# Altium footprint library PCB1.PcbLib: 74 footprints (part 2 of 5)
Each footprint in its own frame and in the unit in brackets; x right, y up, seen from the top. Pads: shape width x height; smd on the part's side, far side on the other; paste and mask are expansions set on the pad; w line width, h text height; cw(c..) or ccw(c..) is an arc to the next point about the centre after c.
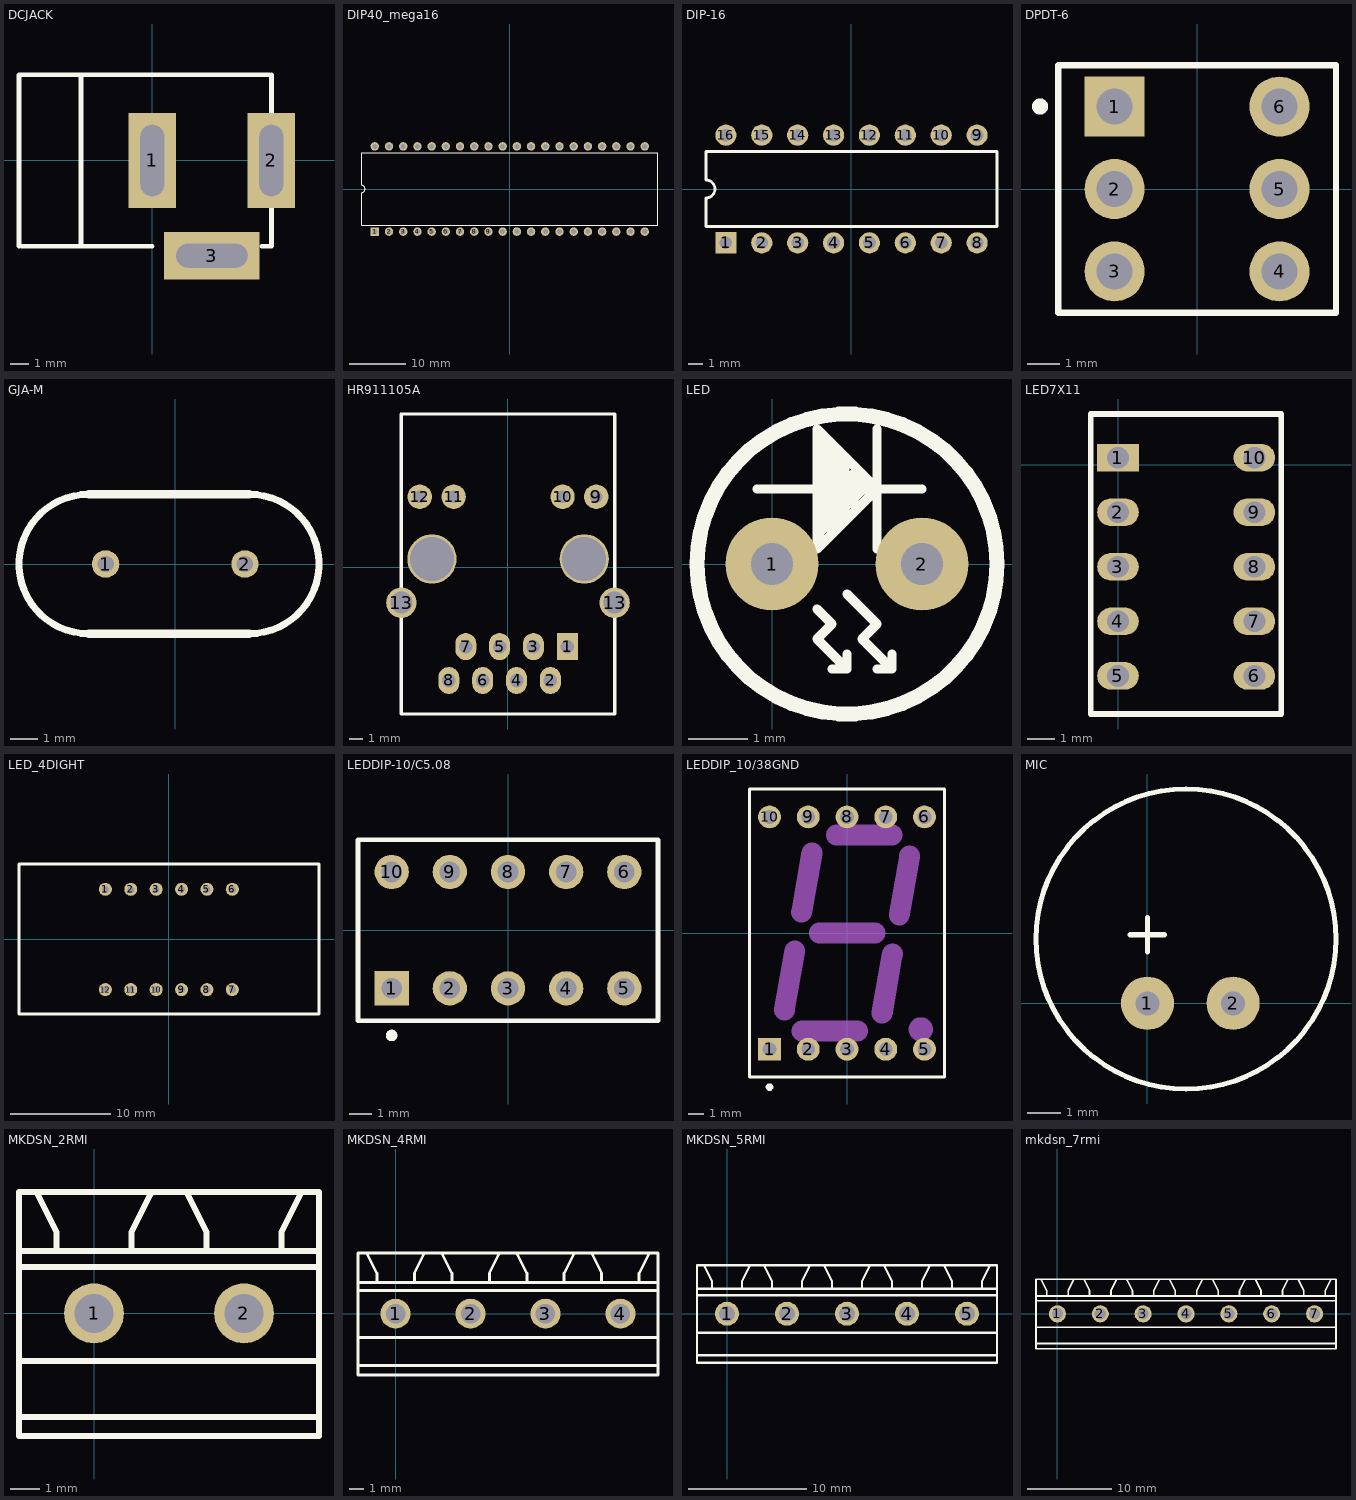
[diagram p1: the footprints below, top view; thin cyan lines are the x and y axes]

## DCJACK [mm]
pads (3):
  rect 2.54x5.08 hole 1.27 slot 3.81 at 90 deg: 1(0,0) 2(6.35,0)
  rect 5.08x2.54 hole 1.27 slot 3.81 at 0 deg: 3(3.175,-5.08)
Top Overlay:
  lines w0.254: -7.112,-4.572 -7.112,4.572 6.223,4.572 ; -6.985,-4.572 0,-4.572 ; -3.81,-4.572 -3.81,4.572 ; 5.842,-4.572 6.35,-4.572 6.35,-2.54 ; 6.35,2.54 6.35,4.572

## DIP40_mega16 [mm]
pads (40):
  rect 1.5x1.5 hole 0.9: 1(-24.13,-7.62)
  round 1.5 hole 0.9: 2(-21.59,-7.62) 3(-19.05,-7.62) 4(-16.51,-7.62) 5(-13.97,-7.62) 6(-11.43,-7.62) 7(-8.89,-7.62) 8(-6.35,-7.62) 9(-3.81,-7.62) 10(-1.27,-7.62) 11(1.27,-7.62) 12(3.81,-7.62) 13(6.35,-7.62) 14(8.89,-7.62) 15(11.43,-7.62) 16(13.97,-7.62) 17(16.51,-7.62) 18(19.05,-7.62) 19(21.59,-7.62) 20(24.13,-7.62) 21(24.13,7.62) 22(21.59,7.62) 23(19.05,7.62) 24(16.51,7.62) 25(13.97,7.62) 26(11.43,7.62) 27(8.89,7.62) 28(6.35,7.62) 29(3.81,7.62) 30(1.27,7.62) 31(-1.27,7.62) 32(-3.81,7.62) 33(-6.35,7.62) 34(-8.89,7.62) 35(-11.43,7.62) 36(-13.97,7.62) 37(-16.51,7.62) 38(-19.05,7.62) 39(-21.59,7.62) 40(-24.13,7.62)
Top Overlay:
  lines w0.2: -26.5,-6.45 26.5,-6.45 26.5,6.45 -26.5,6.45 -26.5,0.635 cw(c-26.5,0) -26.5,-0.635 -26.5,-6.45

## DIP-16 [mm]
pads (16):
  rect 1.5x1.5 hole 0.9: 1(-8.89,-3.81)
  round 1.5 hole 0.9: 2(-6.35,-3.81) 3(-3.81,-3.81) 4(-1.27,-3.81) 5(1.27,-3.81) 6(3.81,-3.81) 7(6.35,-3.81) 8(8.89,-3.81) 9(8.89,3.81) 10(6.35,3.81) 11(3.81,3.81) 12(1.27,3.81) 13(-1.27,3.81) 14(-3.81,3.81) 15(-6.35,3.81) 16(-8.89,3.81)
Top Overlay:
  lines w0.2: -10.3,-2.65 -10.3,-0.635 ccw(c-10.3,0) -10.3,0.635 -10.3,2.65 10.3,2.65 10.3,-2.65 -10.3,-2.65

## DPDT-6 [mm] "Double-Pole, Double-Throw Switch; 6 Leads"
height 1.75
pads (6):
  rect 1.85x1.85 hole 1.1: 1(-2.54,2.54)
  round 1.85 hole 1.1: 2(-2.54,0) 3(-2.54,-2.54) 4(2.54,-2.54) 5(2.54,0) 6(2.54,2.54)
Top Overlay:
  circle w0.25: c-4.836,2.541 r0.125
  lines w0.2: -4.28,-3.81 4.28,-3.81 4.28,3.81 -4.28,3.81 -4.28,-3.81

## GJA-M [mm]
pads (2):
  round 1 hole 0.6: 1(-2.54,0) 2(2.54,0)
Top Overlay:
  lines w0.254: -3.156,-2.54 cw(c-3.156,0) -3.156,2.54 ; 2.698,-2.54 ccw(c2.698,0) 2.698,2.54
  lines w0.305: -3.156,-2.54 2.698,-2.54 ; -3.156,2.54 2.698,2.54

## HR911105A [mil]
height 68.9
pads (16):
  rect 62x80 hole 40: 1(176,-235)
  oval 62x80 hole 40: 2(126,-335) 3(76,-235) 4(26,-335) 5(-24,-235) 6(-74,-335) 7(-124,-235) 8(-174,-335)
  round 72 hole 36: 9(261.63,207.91) 10(162,207.91) 11(-159.87,207.91) 12(-260,207.91)
  round 90 hole 65: 13(-314.16,-105.08) 13(315.76,-105.08)
  round 145.67 hole 130 unplated: ""(-224,24) ""(226,24)
Top Overlay:
  lines w10: -314.16,-434 315.76,-434 315.76,-105.08 315.76,452.17 316,452.4 -314,452.4 -314.16,452.24 -314.16,-105.08 -314.16,-434

## LED [mil]
pads (2):
  round 62 hole 28: 1(0,0) 2(100,0)
Top Overlay:
  circle w10: c50,0 r100
  rectangle: 30,26.8 46.8,72
  lines w5: 49.06,70.94 49.06,29.06 55,35 55,61.77 ; 53.49,53.54 52,52.06 59,52.06 55,56.06 55,49.89 55,43 ; 55,43 35.48,23.48 35.48,78 41.24,72.24 41.24,78.24 33.8,70.8 33.8,79.8 32,78 32,20 61,49 61,55.77 55,61.77 ; 55,43 55,61.77 ; 55,43 49.06,48.94 49.06,55.83 55,61.77
  lines w6: -10,50 100,50 ; 30,-30 40,-40 30,-50 50,-70 ; 30,30 30,33.07 ; 40,-70 50,-70 ; 50,-60 50,-70 ; 50,-20 70,-40 60,-50 80,-70 ; 70,-70 80,-70 ; 70,10 70,90 ; 80,-60 80,-70 ; 30,10 70,50 30,90 30,10

## LED7X11 [mil]
pads (10):
  rect 60x40 hole 31.5: 1(-0.39,10)
  oval 60x40 hole 31.5: 2(-0.39,-68.74) 3(-0.39,-147.48) 4(-0.39,-226.22) 5(-0.39,-304.96) 6(196.46,-304.96) 7(196.46,-226.22) 8(196.46,-147.48) 9(196.46,-68.74) 10(196.46,10)
Top Overlay:
  lines w8: -40,-360 235.59,-360 235.59,73.07 -40,73.07 -40,-360

## LED_4DIGHT [mm]
pads (12):
  round 1.3 hole 0.7: 1(-6.35,5.016) 2(-3.81,5.016) 3(-1.27,5.016) 4(1.27,5.016) 5(3.81,5.016) 6(6.35,5.016) 7(6.35,-5.016) 8(3.81,-5.016) 9(1.27,-5.016) 10(-1.27,-5.016) 11(-3.81,-5.016) 12(-6.35,-5.016)
Top Overlay:
  lines w0.254: -14.986,-7.455 15.014,-7.455 15.014,7.545 -14.986,7.545 -14.986,-7.455

## LEDDIP-10/C5.08 [mm]
pads (10):
  rect 1.5x1.5 hole 0.9: 1(-5.08,-2.54)
  round 1.5 hole 0.9: 2(-2.54,-2.54) 3(0,-2.54) 4(2.54,-2.54) 5(5.08,-2.54) 6(5.08,2.54) 7(2.54,2.54) 8(0,2.54) 9(-2.54,2.54) 10(-5.08,2.54)
Top Overlay:
  circle w0.25: c-5.08,-4.6 r0.125
  lines w0.2: -6.55,-3.95 -6.55,3.95 6.55,3.95 6.55,-3.95 -6.55,-3.95

## LEDDIP_10/38GND [mm] "LED, 7-Segment Display, 14.2 mm, RHD; 10 Leads; Row Space 15.24 mm; Pitch 2.54 mm"
height 8.25
pads (10):
  rect 1.5x1.5 hole 0.9: 1(-5.08,-7.62)
  round 1.5 hole 0.9: 2(-2.54,-7.62) 3(0,-7.62) 4(2.54,-7.62) 5(5.08,-7.62) 6(5.08,7.62) 7(2.54,7.62) 8(0,7.62) 9(-2.54,7.62) 10(-5.08,7.62)
Top Overlay:
  circle w0.25: c-5.08,-10.1 r0.125
  lines w0.2: -6.4,-9.45 6.4,-9.45 6.4,9.45 -6.4,9.45 -6.4,-9.45
Mechanical 1:
  circle w1: c4.842,-6.316 r0.296
  lines w1.37: -4.108,-5.054 -3.425,-1.17 ; -2.974,1.368 -2.293,5.255 ; -2.958,-6.429 0.692,-6.426 ; -1.821,0 1.828,0 ; -0.689,6.425 2.96,6.425 ; 2.295,-5.256 2.98,-1.371 ; 3.427,1.169 4.11,5.058

## MIC [mil]
pads (2):
  round 62 hole 28: 1(0,0) 2(100,0)
Top Overlay:
  circle w6: c45,75 r175
  lines w6: -20,80 20,80 ; 0,60 0,100

## MKDSN_2RMI [mil]
height 47.24
pads (2):
  round 80 hole 52: 1(0,0) 2(200,0)
Top Overlay:
  lines w8: -100,-138.33 300,-138.33 ; -100,-63.33 300,-63.33 ; -100,61.67 300,61.67 ; -100,83.33 300,83.33 ; -75,158.33 -50,108.33 -50,83.33 ; 50,83.33 50,108.33 75,158.33 ; 125,158.33 150,108.33 150,83.33 ; 250,83.33 250,108.33 275,158.33 ; -100,-163.33 300,-163.33 300,161.67 -100,161.67 -100,-163.33

## MKDSN_4RMI [mil]
pads (4):
  round 80 hole 52: 1(0,0) 2(200,0) 3(400,0) 4(600,0)
Top Overlay:
  lines w8: -100,-138.33 700,-138.33 ; -100,-63.33 700,-63.33 ; -100,61.67 700,61.67 ; -100,83.33 700,83.33 ; -75,158.33 -50,108.33 -50,83.33 ; 50,83.33 50,108.33 75,158.33 ; 125,158.33 150,108.33 150,83.33 ; 250,83.33 250,108.33 275,158.33 ; 325,158.33 350,108.33 350,83.33 ; 450,83.33 450,108.33 475,158.33 ; 525,158.33 550,108.33 550,83.33 ; 650,83.33 650,108.33 675,158.33 ; -100,-163.33 -100,161.67 700,161.67 700,-163.33 -100,-163.33

## MKDSN_5RMI [mil]
height 83.86
pads (5):
  round 80 hole 52: 1(0,0) 2(200,0) 3(400,0) 4(600,0) 5(800,0)
Top Overlay:
  lines w8: -100,-138.33 900,-138.33 ; -100,-63.33 900,-63.33 ; -100,61.67 900,61.67 ; -100,83.33 900,83.33 ; -75,158.33 -50,108.33 -50,83.33 ; 50,83.33 50,108.33 75,158.33 ; 125,158.33 150,108.33 150,83.33 ; 250,83.33 250,108.33 275,158.33 ; 325,158.33 350,108.33 350,83.33 ; 450,83.33 450,108.33 475,158.33 ; 525,158.33 550,108.33 550,83.33 ; 650,83.33 650,108.33 675,158.33 ; 725,158.33 750,108.33 750,83.33 ; 850,83.33 850,108.33 875,158.33 ; -100,-163.33 -100,161.67 900,161.67 900,-163.33 -100,-163.33

## mkdsn_7rmi [mil]
height 83.86
pads (7):
  round 80 hole 52: 1(0,0) 2(200,0) 3(400,0) 4(600,0) 5(800,0) 6(1000,0) 7(1200,0)
Top Overlay:
  lines w8: -100,-138.33 1300,-138.33 ; -100,-63.33 1300,-63.33 ; -100,61.67 1300,61.67 ; -100,83.33 1300,83.33 ; -75,158.33 -50,108.33 -50,83.33 ; 50,83.33 50,108.33 75,158.33 ; 125,158.33 150,108.33 150,83.33 ; 250,83.33 250,108.33 275,158.33 ; 325,158.33 350,108.33 350,83.33 ; 450,83.33 450,108.33 475,158.33 ; 525,158.33 550,108.33 550,83.33 ; 650,83.33 650,108.33 675,158.33 ; 725,158.33 750,108.33 750,83.33 ; 850,83.33 850,108.33 875,158.33 ; 925,158.33 950,108.33 950,83.33 ; 1050,83.33 1050,108.33 1075,158.33 ; 1125,158.33 1150,108.33 1150,83.33 ; 1250,83.33 1250,108.33 1275,158.33 ; -100,-163.33 1300,-163.33 1300,161.67 -100,161.67 -100,-163.33